# Altium footprint library Molex Pico SPOX 2 POS.PcbLib: 1 footprints
Each footprint in its own frame and in the unit in brackets; x right, y up, seen from the top. Pads: shape width x height; smd on the part's side, far side on the other; paste and mask are expansions set on the pad; w line width, h text height; cw(c..) or ccw(c..) is an arc to the next point about the centre after c.
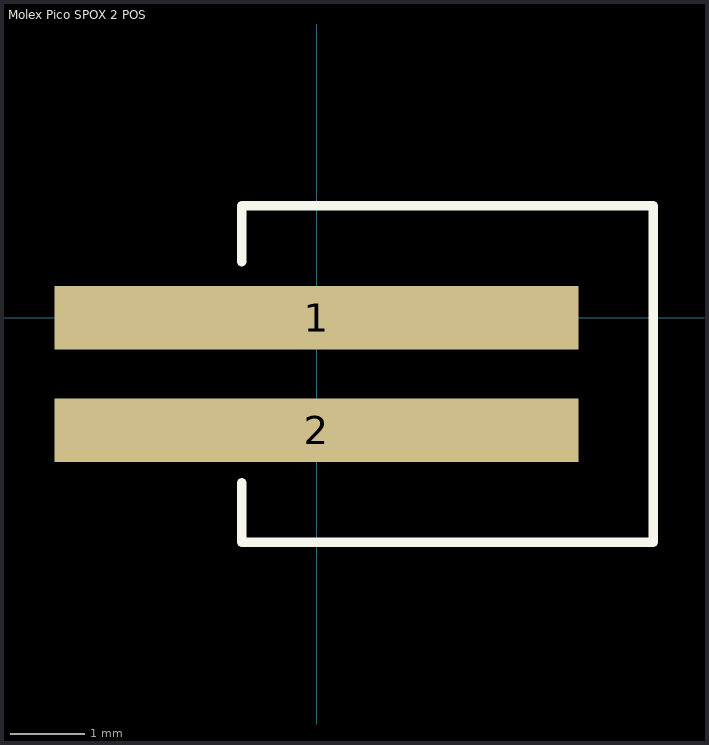
[diagram p0: the footprint, top view; thin cyan lines are the x and y axes]

## Molex Pico SPOX 2 POS [mm]
pads (2):
  rect 7x0.85 smd: 1(0,0) 2(0,-1.5)
Top Overlay:
  lines w0.127: -1,-2.2 -1,-3 4.5,-3 4.5,1.5 -1,1.5 -1,0.75
3D body "874370243.stp": height 5.76, standoff 0.01, extent -2.1,-2.9 3.9,1.4